# EAGLE library part DA108S1 (library l293dd)
DIODE ARRAY (ASD)
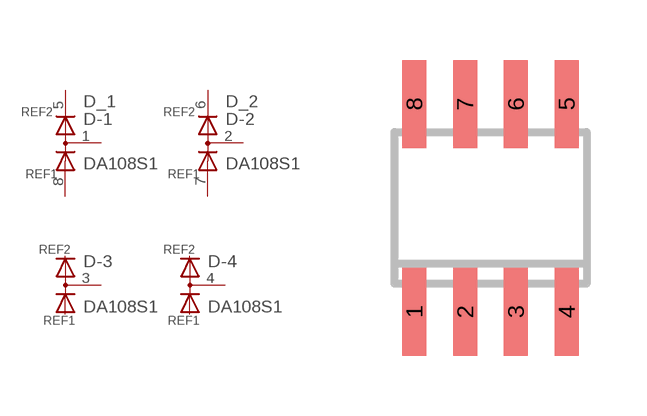
[diagram p3: symbol with the pads of SO08; footprint SO08]

Designator prefix D; gates _1=REF -1=D-1 _2=REF -2=D-1 -3=D-2-1 -4=D-2-1

## DA108S1 (MF: Arrow Electronics; MPN: DA108S1; OC_FARNELL: 9802215; OC_NEWARK: 89K0513)  [SO08]
1  -1:K  pas
2  -2:K  pas
3  -3:K  pas
4  -4:K  pas
5  _1:REF2  pas
6  _2:REF2  pas
7  _2:REF1  pas
8  _1:REF1  pas

## Footprint SO08 (pad centres in mm)
SMALL OUTLINE INTEGRATED CIRCUIT body 3.9 mm/JEDEC MS-012AA
smd 0.6 x 2.2: 1 -1.905,-2.6; 2 -0.635,-2.6; 3 0.635,-2.6; 4 1.905,-2.6; 5 1.905,2.6; 6 0.635,2.6; 7 -0.635,2.6; 8 -1.905,2.6